# Altium integrated library Texas Instruments Interface USB.IntLib: 91 symbols (part 7 of 12)
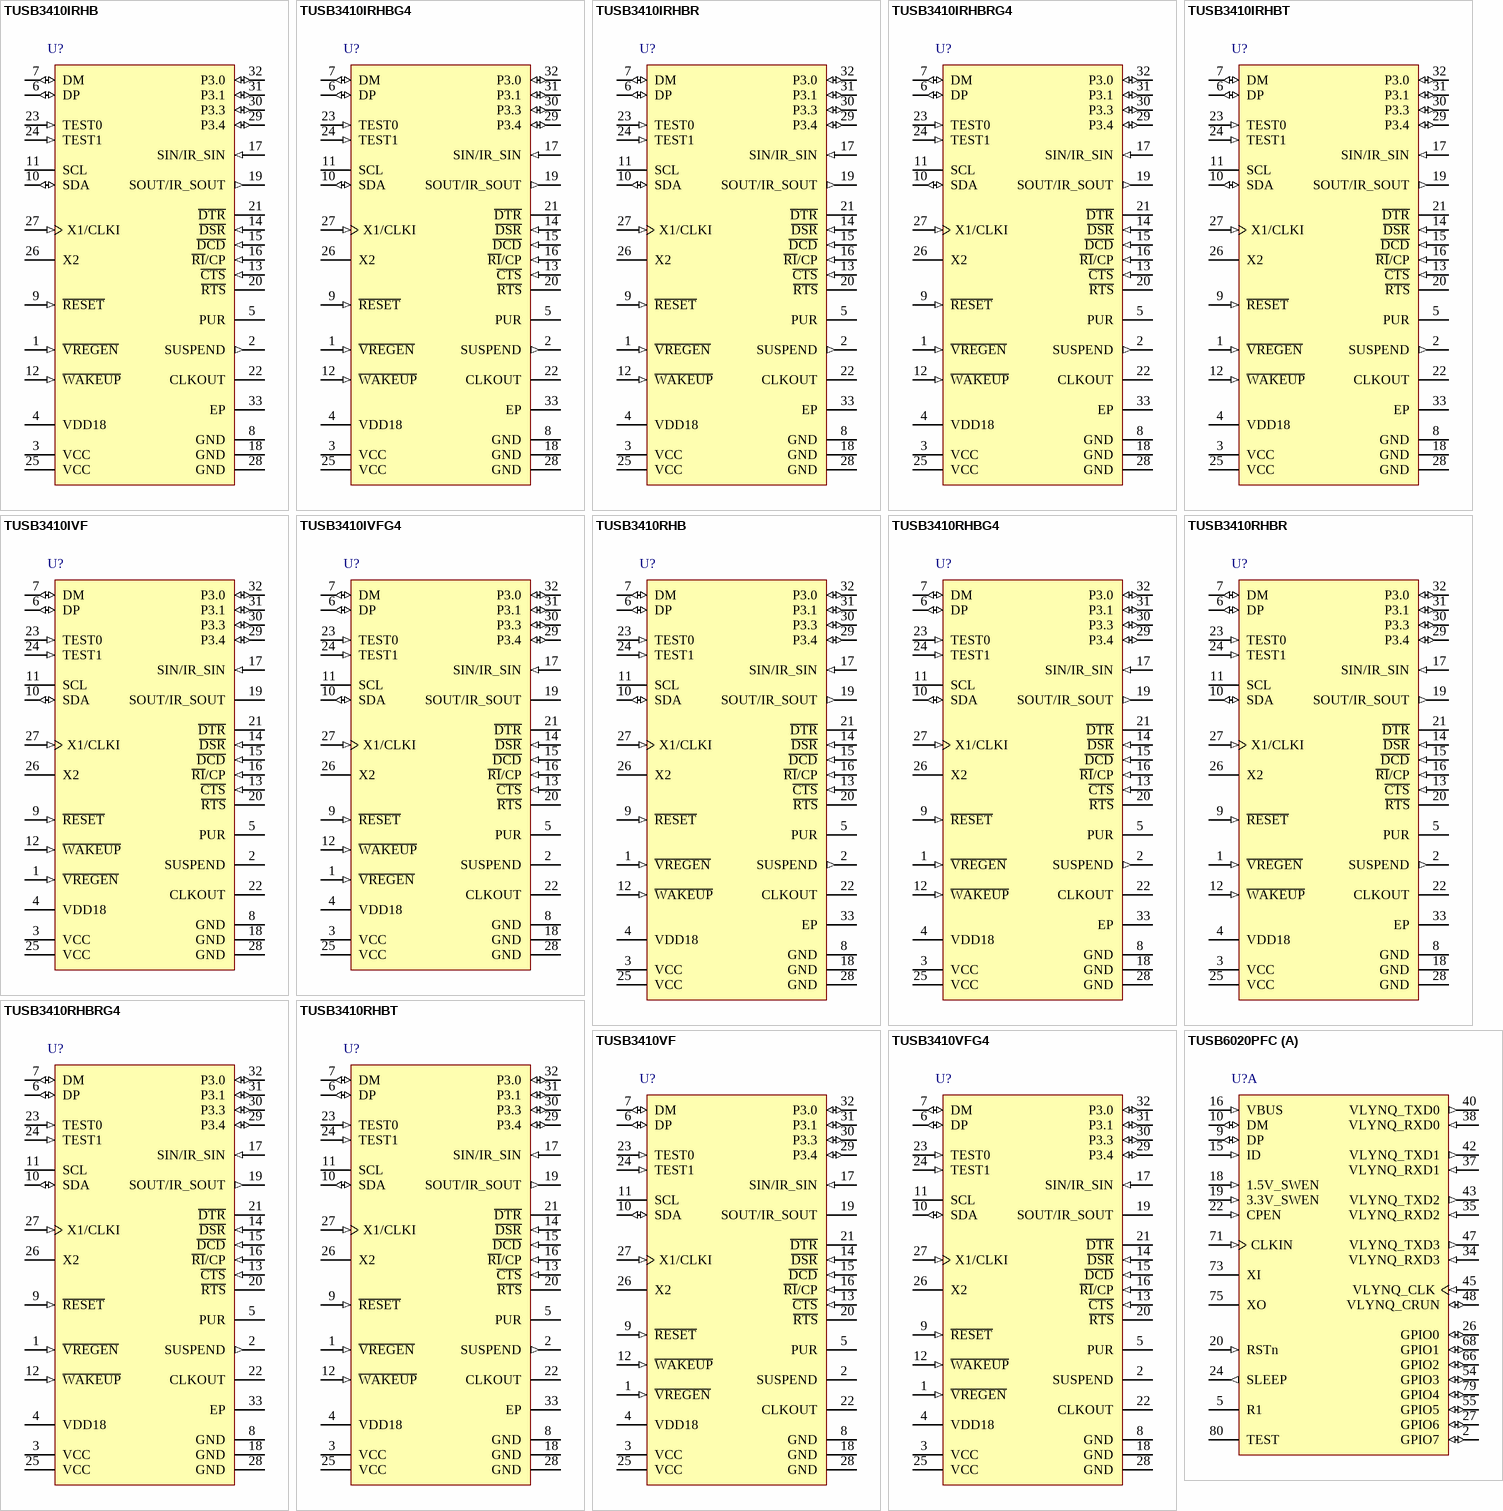
[diagram p14: symbols TUSB3410IRHB to TUSB6020PFC]

## TUSB3410IRHBG4
designator U?
RS232 / IrDA Serial-to-USB Converter, 2 MIPs, 16 KBytes, 8052, 3.3V, -40 to 85 degC, 32-Pin QFN (RHB), Green (RoHS & no Sb/Br); PartNumber: TUSB3410IRHBG4; Manufacturer: Texas Instruments; SubFamily: USB Peripheral; MCU Speed(Max)(MIPs): 2; Number of Endpoints IN: 3; Supply Voltage(s)(V): 3.3; Application Interface: Enhanced, UART; GPIO Pins(#): 4; USB Speed: Full; Integrated MCU Architecture: 8052; Bulk Transfer: True; MCU Code Space(KBytes): 16; DatasheetVersion: SLLS519H; PackageVersion: revD, Jun-2011; PackageReference: RHB32-3450X3450TP; PackageDescription: 32-Pin Plastic Quad Flat No-Lead, 5 x 5 mm Body, 0.5 mm Pitch, 3.45 x 3.45 mm Exposed Pad; Mounting Technology: Surface Mount; Eco-Plan: Green (RoHS & no Sb/Br); Number of Endpoints OUT: 3; Control Transfer: True; DMA: True; Interrupt Transfer: True; Remote Wakeup: True; Code_JEDEC: MO-220; ComponentLink1Description: Datasheet; ComponentLink1URL: http://www.ti.com/general/docs/lit/getliterature.tsp?genericPartNumber=TUSB3410&fileType=pdf; ComponentLink2Description: Package Specification; ComponentLink2URL: http://www.ti.com/litv/pdf/mpqf130c
footprint RHB32-3450X3450TP (QFN, 32-Leads, Body 5x5mm, Pitch 0.5mm, Thermal Pad 3.45x3.45mm, TI Recommended)
pins: 1 ~{VREGEN} (in) "This active-low terminal is used to enable the 3.3-V to 1.8-V voltage regulator.", 2 SUSPEND (out) "Suspend indicator terminal (see Note 3). When this terminal is asserted high, the device is in suspend mode.", 3 VCC (power) "3.3V", 4 VDD18 (power) "1.8-V supply. An internal voltage regulator generates this supply voltage when terminal V\R\E\G\E\N\ is low. When V\R\E\G\E\N\ is high, 1.8 V must be supplied externally.", 5 PUR (hiz) "Pull-up resistor connection (see Note 2)", 6 DP (io) "Upstream USB port differential data plus", 7 DM (io) "Upstream USB port differential data minus", 8 GND (power) "Digital ground", 9 ~{RESET} (in) "Device master reset input (see Note 4)", 10 SDA (io) "Master I2C controller: data signal (see Notes 1 and 5)", 11 SCL (hiz) "Master I2C controller: clock signal (see Note 1)", 12 ~{WAKEUP} (in) "Remote wake-up request terminal. When low, wakes up system (see Note 5)", 13 ~{CTS} (in) "UART: Clear to send (see Note 4)", 14 ~{DSR} (in) "UART: Data set ready (see Note 4)", 15 ~{DCD} (in) "UART: Data carrier detect (see Note 4)", 16 ~{RI}/CP (in) "UART: Ring indicator (see Note 4)", 17 SIN/IR_SIN (in) "UART: Serial input data / IR Serial data input (see Note 6)", 18 GND (power) "Digital ground", 19 SOUT/IR_SOUT (out) "UART: Serial output data / IR Serial data output (see Note 7)", 20 ~{RTS} (hiz) "UART: Request to send (see Note 1)", 21 ~{DTR} (hiz) "UART: Data terminal ready (see Note 1)", 22 CLKOUT (hiz) "Clock output (controlled by bits 2 (CLKOUTEN) and 3(CLKSLCT) in the MODECNFG register (see Section 5.5 and Note 1)", 23 TEST0 (in) "Test input (for factory test only) (see Note 5). This terminal must be tied to VCC through a 10-k ohm resistor.", 24 TEST1 (in) "Test input (for factory test only) (see Note 5). This terminal must be tied to VCC through a 10-k ohm resistor.", 25 VCC (power) "3.3V", 26 X2 "12-MHz crystal output", 27 X1/CLKI (in) "12-MHz crystal input or clock input", 28 GND (power) "Digital ground", 29 P3.4 (io) "General-purpose I/O 4 (port 3, terminal 4) (see Notes 3, 5, and 8)", 30 P3.3 (io) "General-purpose I/O 3 (port 3, terminal 3) (see Notes 3, 5, and 8)", 31 P3.1 (io) "General-purpose I/O 1 (port 3, terminal 1) (see Notes 3, 5, and 8)", 32 P3.0 (io) "General-purpose I/O 0 (port 3, terminal 0) (see Notes 3, 5, and 8)", 33 EP "Exposed Thermal Pad"

## TUSB3410IRHBR
designator U?
2 MIPs, RS232 / IrDA Serial-to-USB Converter, 16 KBytes, 8052, 3.3V, -40 to 85 degC, 32-Pin QFN (RHB), Green (RoHS & no Sb/Br); PartNumber: TUSB3410IRHBR; Manufacturer: Texas Instruments; SubFamily: USB Peripheral; MCU Speed(Max)(MIPs): 2; Number of Endpoints IN: 3; Supply Voltage(s)(V): 3.3; Application Interface: Enhanced, UART; GPIO Pins(#): 4; USB Speed: Full; Integrated MCU Architecture: 8052; Bulk Transfer: True; MCU Code Space(KBytes): 16; DatasheetVersion: SLLS519H; PackageVersion: revD, Jun-2011; PackageReference: RHB32-3450X3450TP; PackageDescription: 32-Pin Plastic Quad Flat No-Lead, 5 x 5 mm Body, 0.5 mm Pitch, 3.45 x 3.45 mm Exposed Pad; Mounting Technology: Surface Mount; Eco-Plan: Green (RoHS & no Sb/Br); Number of Endpoints OUT: 3; Control Transfer: True; DMA: True; Interrupt Transfer: True; Remote Wakeup: True; Code_JEDEC: MO-220; ComponentLink1Description: Datasheet; ComponentLink1URL: http://www.ti.com/general/docs/lit/getliterature.tsp?genericPartNumber=TUSB3410&fileType=pdf; ComponentLink2Description: Package Specification; ComponentLink2URL: http://www.ti.com/litv/pdf/mpqf130c
footprint RHB32-3450X3450TP (QFN, 32-Leads, Body 5x5mm, Pitch 0.5mm, Thermal Pad 3.45x3.45mm, TI Recommended)
pins: 1 ~{VREGEN} (in) "This active-low terminal is used to enable the 3.3-V to 1.8-V voltage regulator.", 2 SUSPEND (out) "Suspend indicator terminal (see Note 3). When this terminal is asserted high, the device is in suspend mode.", 3 VCC (power) "3.3V", 4 VDD18 (power) "1.8-V supply. An internal voltage regulator generates this supply voltage when terminal V\R\E\G\E\N\ is low. When V\R\E\G\E\N\ is high, 1.8 V must be supplied externally.", 5 PUR (hiz) "Pull-up resistor connection (see Note 2)", 6 DP (io) "Upstream USB port differential data plus", 7 DM (io) "Upstream USB port differential data minus", 8 GND (power) "Digital ground", 9 ~{RESET} (in) "Device master reset input (see Note 4)", 10 SDA (io) "Master I2C controller: data signal (see Notes 1 and 5)", 11 SCL (hiz) "Master I2C controller: clock signal (see Note 1)", 12 ~{WAKEUP} (in) "Remote wake-up request terminal. When low, wakes up system (see Note 5)", 13 ~{CTS} (in) "UART: Clear to send (see Note 4)", 14 ~{DSR} (in) "UART: Data set ready (see Note 4)", 15 ~{DCD} (in) "UART: Data carrier detect (see Note 4)", 16 ~{RI}/CP (in) "UART: Ring indicator (see Note 4)", 17 SIN/IR_SIN (in) "UART: Serial input data / IR Serial data input (see Note 6)", 18 GND (power) "Digital ground", 19 SOUT/IR_SOUT (out) "UART: Serial output data / IR Serial data output (see Note 7)", 20 ~{RTS} (hiz) "UART: Request to send (see Note 1)", 21 ~{DTR} (hiz) "UART: Data terminal ready (see Note 1)", 22 CLKOUT (hiz) "Clock output (controlled by bits 2 (CLKOUTEN) and 3(CLKSLCT) in the MODECNFG register (see Section 5.5 and Note 1)", 23 TEST0 (in) "Test input (for factory test only) (see Note 5). This terminal must be tied to VCC through a 10-k ohm resistor.", 24 TEST1 (in) "Test input (for factory test only) (see Note 5). This terminal must be tied to VCC through a 10-k ohm resistor.", 25 VCC (power) "3.3V", 26 X2 "12-MHz crystal output", 27 X1/CLKI (in) "12-MHz crystal input or clock input", 28 GND (power) "Digital ground", 29 P3.4 (io) "General-purpose I/O 4 (port 3, terminal 4) (see Notes 3, 5, and 8)", 30 P3.3 (io) "General-purpose I/O 3 (port 3, terminal 3) (see Notes 3, 5, and 8)", 31 P3.1 (io) "General-purpose I/O 1 (port 3, terminal 1) (see Notes 3, 5, and 8)", 32 P3.0 (io) "General-purpose I/O 0 (port 3, terminal 0) (see Notes 3, 5, and 8)", 33 EP "Exposed Thermal Pad"

## TUSB3410IRHBRG4
designator U?
2 MIPs, RS232 / IrDA Serial-to-USB Converter, 16 KBytes, 8052, 3.3V, -40 to 85 degC, 32-Pin QFN (RHB), Green (RoHS & no Sb/Br); PartNumber: TUSB3410IRHBRG4; Manufacturer: Texas Instruments; SubFamily: USB Peripheral; MCU Speed(Max)(MIPs): 2; Number of Endpoints IN: 3; Supply Voltage(s)(V): 3.3; Application Interface: Enhanced, UART; GPIO Pins(#): 4; USB Speed: Full; Integrated MCU Architecture: 8052; Bulk Transfer: True; MCU Code Space(KBytes): 16; DatasheetVersion: SLLS519H; PackageVersion: revD, Jun-2011; PackageReference: RHB32-3450X3450TP; PackageDescription: 32-Pin Plastic Quad Flat No-Lead, 5 x 5 mm Body, 0.5 mm Pitch, 3.45 x 3.45 mm Exposed Pad; Mounting Technology: Surface Mount; Eco-Plan: Green (RoHS & no Sb/Br); Number of Endpoints OUT: 3; Control Transfer: True; DMA: True; Interrupt Transfer: True; Remote Wakeup: True; Code_JEDEC: MO-220; ComponentLink1Description: Datasheet; ComponentLink1URL: http://www.ti.com/general/docs/lit/getliterature.tsp?genericPartNumber=TUSB3410&fileType=pdf; ComponentLink2Description: Package Specification; ComponentLink2URL: http://www.ti.com/litv/pdf/mpqf130c
footprint RHB32-3450X3450TP (QFN, 32-Leads, Body 5x5mm, Pitch 0.5mm, Thermal Pad 3.45x3.45mm, TI Recommended)
pins: 1 ~{VREGEN} (in) "This active-low terminal is used to enable the 3.3-V to 1.8-V voltage regulator.", 2 SUSPEND (out) "Suspend indicator terminal (see Note 3). When this terminal is asserted high, the device is in suspend mode.", 3 VCC (power) "3.3V", 4 VDD18 (power) "1.8-V supply. An internal voltage regulator generates this supply voltage when terminal V\R\E\G\E\N\ is low. When V\R\E\G\E\N\ is high, 1.8 V must be supplied externally.", 5 PUR (hiz) "Pull-up resistor connection (see Note 2)", 6 DP (io) "Upstream USB port differential data plus", 7 DM (io) "Upstream USB port differential data minus", 8 GND (power) "Digital ground", 9 ~{RESET} (in) "Device master reset input (see Note 4)", 10 SDA (io) "Master I2C controller: data signal (see Notes 1 and 5)", 11 SCL (hiz) "Master I2C controller: clock signal (see Note 1)", 12 ~{WAKEUP} (in) "Remote wake-up request terminal. When low, wakes up system (see Note 5)", 13 ~{CTS} (in) "UART: Clear to send (see Note 4)", 14 ~{DSR} (in) "UART: Data set ready (see Note 4)", 15 ~{DCD} (in) "UART: Data carrier detect (see Note 4)", 16 ~{RI}/CP (in) "UART: Ring indicator (see Note 4)", 17 SIN/IR_SIN (in) "UART: Serial input data / IR Serial data input (see Note 6)", 18 GND (power) "Digital ground", 19 SOUT/IR_SOUT (out) "UART: Serial output data / IR Serial data output (see Note 7)", 20 ~{RTS} (hiz) "UART: Request to send (see Note 1)", 21 ~{DTR} (hiz) "UART: Data terminal ready (see Note 1)", 22 CLKOUT (hiz) "Clock output (controlled by bits 2 (CLKOUTEN) and 3(CLKSLCT) in the MODECNFG register (see Section 5.5 and Note 1)", 23 TEST0 (in) "Test input (for factory test only) (see Note 5). This terminal must be tied to VCC through a 10-k ohm resistor.", 24 TEST1 (in) "Test input (for factory test only) (see Note 5). This terminal must be tied to VCC through a 10-k ohm resistor.", 25 VCC (power) "3.3V", 26 X2 "12-MHz crystal output", 27 X1/CLKI (in) "12-MHz crystal input or clock input", 28 GND (power) "Digital ground", 29 P3.4 (io) "General-purpose I/O 4 (port 3, terminal 4) (see Notes 3, 5, and 8)", 30 P3.3 (io) "General-purpose I/O 3 (port 3, terminal 3) (see Notes 3, 5, and 8)", 31 P3.1 (io) "General-purpose I/O 1 (port 3, terminal 1) (see Notes 3, 5, and 8)", 32 P3.0 (io) "General-purpose I/O 0 (port 3, terminal 0) (see Notes 3, 5, and 8)", 33 EP "Exposed Thermal Pad"

## TUSB3410IRHBT
designator U?
RS232 / IrDA Serial-to-USB Converter, 2 MIPs, 16 KBytes, 8052, 3.3V, -40 to 85 degC, 33-Pin QFN (RHB), Green (RoHS & no Sb/Br); PartNumber: TUSB3410IRHBT; Manufacturer: Texas Instruments; SubFamily: USB Peripheral; MCU Speed(Max)(MIPs): 2; Number of Endpoints IN: 3; Supply Voltage(s)(V): 3.3; Application Interface: Enhanced, UART; GPIO Pins(#): 4; USB Speed: Full; Integrated MCU Architecture: 8052; Bulk Transfer: True; MCU Code Space(KBytes): 16; DatasheetVersion: SLLS519H; PackageVersion: revD, Jun-2011; PackageReference: RHB32-3450X3450TP; PackageDescription: 32-Pin Plastic Quad Flat No-Lead, 5 x 5 mm Body, 0.5 mm Pitch, 3.45 x 3.45 mm Exposed Pad; Mounting Technology: Surface Mount; Eco-Plan: Green (RoHS & no Sb/Br); Number of Endpoints OUT: 3; Control Transfer: True; DMA: True; Interrupt Transfer: True; Remote Wakeup: True; Code_JEDEC: MO-220; ComponentLink1Description: Datasheet; ComponentLink1URL: http://www.ti.com/general/docs/lit/getliterature.tsp?genericPartNumber=TUSB3410&fileType=pdf; ComponentLink2Description: Package Specification; ComponentLink2URL: http://www.ti.com/litv/pdf/mpqf130c
footprint RHB32-3450X3450TP (QFN, 32-Leads, Body 5x5mm, Pitch 0.5mm, Thermal Pad 3.45x3.45mm, TI Recommended)
pins: 1 ~{VREGEN} (in) "This active-low terminal is used to enable the 3.3-V to 1.8-V voltage regulator.", 2 SUSPEND (out) "Suspend indicator terminal (see Note 3). When this terminal is asserted high, the device is in suspend mode.", 3 VCC (power) "3.3V", 4 VDD18 (power) "1.8-V supply. An internal voltage regulator generates this supply voltage when terminal V\R\E\G\E\N\ is low. When V\R\E\G\E\N\ is high, 1.8 V must be supplied externally.", 5 PUR (hiz) "Pull-up resistor connection (see Note 2)", 6 DP (io) "Upstream USB port differential data plus", 7 DM (io) "Upstream USB port differential data minus", 8 GND (power) "Digital ground", 9 ~{RESET} (in) "Device master reset input (see Note 4)", 10 SDA (io) "Master I2C controller: data signal (see Notes 1 and 5)", 11 SCL (hiz) "Master I2C controller: clock signal (see Note 1)", 12 ~{WAKEUP} (in) "Remote wake-up request terminal. When low, wakes up system (see Note 5)", 13 ~{CTS} (in) "UART: Clear to send (see Note 4)", 14 ~{DSR} (in) "UART: Data set ready (see Note 4)", 15 ~{DCD} (in) "UART: Data carrier detect (see Note 4)", 16 ~{RI}/CP (in) "UART: Ring indicator (see Note 4)", 17 SIN/IR_SIN (in) "UART: Serial input data / IR Serial data input (see Note 6)", 18 GND (power) "Digital ground", 19 SOUT/IR_SOUT (out) "UART: Serial output data / IR Serial data output (see Note 7)", 20 ~{RTS} (hiz) "UART: Request to send (see Note 1)", 21 ~{DTR} (hiz) "UART: Data terminal ready (see Note 1)", 22 CLKOUT (hiz) "Clock output (controlled by bits 2 (CLKOUTEN) and 3(CLKSLCT) in the MODECNFG register (see Section 5.5 and Note 1)", 23 TEST0 (in) "Test input (for factory test only) (see Note 5). This terminal must be tied to VCC through a 10-k ohm resistor.", 24 TEST1 (in) "Test input (for factory test only) (see Note 5). This terminal must be tied to VCC through a 10-k ohm resistor.", 25 VCC (power) "3.3V", 26 X2 "12-MHz crystal output", 27 X1/CLKI (in) "12-MHz crystal input or clock input", 28 GND (power) "Digital ground", 29 P3.4 (io) "General-purpose I/O 4 (port 3, terminal 4) (see Notes 3, 5, and 8)", 30 P3.3 (io) "General-purpose I/O 3 (port 3, terminal 3) (see Notes 3, 5, and 8)", 31 P3.1 (io) "General-purpose I/O 1 (port 3, terminal 1) (see Notes 3, 5, and 8)", 32 P3.0 (io) "General-purpose I/O 0 (port 3, terminal 0) (see Notes 3, 5, and 8)", 33 EP "Exposed Thermal Pad"

## TUSB3410IVF
designator U?
RS232 / IrDA Serial-to-USB Converter, 2 MIPs, 16 KBytes, 8052, 3.3V, -40 to 85 degC, 32-Pin LQFP (VF), Green (RoHS & no Sb/Br); PartNumber: TUSB3410IVF; Manufacturer: Texas Instruments; SubFamily: USB Peripheral; MCU Speed(Max)(MIPs): 2; Number of Endpoints IN: 3; Supply Voltage(s)(V): 3.3; Application Interface: Enhanced, UART; GPIO Pins(#): 4; USB Speed: Full; Integrated MCU Architecture: 8052; Bulk Transfer: True; MCU Code Space(KBytes): 16; DatasheetVersion: SLLS519H; PackageVersion: revD, Apr-2000; PackageReference: VF32; PackageDescription: 32-Pin Plastic Quad Flatpack, 7 x 7 mm Body, 0.8 mm Pitch; Mounting Technology: Surface Mount; Eco-Plan: Green (RoHS & no Sb/Br); Number of Endpoints OUT: 3; Control Transfer: True; DMA: True; Interrupt Transfer: True; Remote Wakeup: True; ComponentLink1Description: Datasheet; ComponentLink1URL: http://www.ti.com/general/docs/lit/getliterature.tsp?genericPartNumber=TUSB3410&fileType=pdf; ComponentLink2Description: Package Specification; ComponentLink2URL: http://www.ti.com/litv/pdf/mtqf002b
footprint VF32_N (Thin QFP, 32-Leads, Body 7x7mm, Pitch 0.8mm, IPC Medium Density)
footprint VF32_L (Thin QFP, 32-Leads, Body 7x7mm, Pitch 0.8mm, IPC High Density)
footprint VF32_M (Thin QFP, 32-Leads, Body 7x7mm, Pitch 0.8mm, IPC Low Density)
pins: 1 ~{VREGEN} (in) "This active-low terminal is used to enable the 3.3-V to 1.8-V voltage regulator.", 2 SUSPEND (hiz) "Suspend indicator terminal (see Note 3). When this terminal is asserted high, the device is in suspend mode.", 3 VCC (power) "3.3 V", 4 VDD18 (power) "1.8-V supply. An internal voltage regulator generates this supply voltage when terminal V\R\E\G\E\N\ islow. When V\R\E\G\E\N\ is high, 1.8 V must be supplied externally.", 5 PUR (hiz) "Pull-up resistor connection (see Note 2)", 6 DP (io) "Upstream USB port differential data plus", 7 DM (io) "Upstream USB port differential data minus", 8 GND (power) "Digital ground", 9 ~{RESET} (in) "Device master reset input (see Note 4)", 10 SDA (io) "Master I2C controller: data signal (see Notes 1 and 5)", 11 SCL (hiz) "Master I2C controller: clock signal (see Note 1)", 12 ~{WAKEUP} (in) "Remote wake-up request terminal. When low, wakes up system (see Note 5)", 13 ~{CTS} (in) "UART: Clear to send (see Note 4)", 14 ~{DSR} (in) "UART: Data set ready (see Note 4)", 15 ~{DCD} (in) "UART: Data carrier detect (see Note 4)", 16 ~{RI}/CP (in) "UART: Ring indicator (see Note 4)", 17 SIN/IR_SIN (in) "UART: Serial input data / IR Serial data input (see Note 6)", 18 GND (power) "Digital ground", 19 SOUT/IR_SOUT (hiz) "UART: Serial output data / IR Serial data output (see Note 7)", 20 ~{RTS} (hiz) "UART: Request to send (see Note 1)", 21 ~{DTR} (hiz) "UART: Data terminal ready (see Note 1)", 22 CLKOUT (hiz) "Clock output (controlled by bits 2 (CLKOUTEN) and 3(CLKSLCT) in the MODECNFG register (see Section 5.5 and Note 1)", 23 TEST0 (in) "Test input (for factory test only) (see Note 5). This terminal must be tied to VCC through a 10-kO resistor.", 24 TEST1 (in) "Test input (for factory test only) (see Note 5). This terminal must be tied to VCC through a 10-kO resistor.", 25 VCC (power) "3.3 V", 26 X2 "12-MHz crystal output", 27 X1/CLKI (in) "12-MHz crystal input or clock input", 28 GND (power) "Digital ground", 29 P3.4 (io) "General-purpose I/O 4 (port 3, terminal 4) (see Notes 3, 5, and 8)", 30 P3.3 (io) "General-purpose I/O 3 (port 3, terminal 3) (see Notes 3, 5, and 8)", 31 P3.1 (io) "General-purpose I/O 1 (port 3, terminal 1) (see Notes 3, 5, and 8)", 32 P3.0 (io) "General-purpose I/O 0 (port 3, terminal 0) (see Notes 3, 5, and 8)"

## TUSB3410IVFG4
designator U?
RS232 / IrDA Serial-to-USB Converter, 2 MIPs, 16 KBytes, 8052, 3.3V, -40 to 85 degC, 32-Pin LQFP (VF), Green (RoHS & no Sb/Br); PartNumber: TUSB3410IVFG4; Manufacturer: Texas Instruments; SubFamily: USB Peripheral; MCU Speed(Max)(MIPs): 2; Number of Endpoints IN: 3; Supply Voltage(s)(V): 3.3; Application Interface: Enhanced, UART; GPIO Pins(#): 4; USB Speed: Full; Integrated MCU Architecture: 8052; Bulk Transfer: True; MCU Code Space(KBytes): 16; DatasheetVersion: SLLS519H; PackageVersion: revD, Apr-2000; PackageReference: VF32; PackageDescription: 32-Pin Plastic Quad Flatpack, 7 x 7 mm Body, 0.8 mm Pitch; Mounting Technology: Surface Mount; Eco-Plan: Green (RoHS & no Sb/Br); Number of Endpoints OUT: 3; Control Transfer: True; DMA: True; Interrupt Transfer: True; Remote Wakeup: True; ComponentLink1Description: Datasheet; ComponentLink1URL: http://www.ti.com/general/docs/lit/getliterature.tsp?genericPartNumber=TUSB3410&fileType=pdf; ComponentLink2Description: Package Specification; ComponentLink2URL: http://www.ti.com/litv/pdf/mtqf002b
footprint VF32_N (Thin QFP, 32-Leads, Body 7x7mm, Pitch 0.8mm, IPC Medium Density)
footprint VF32_L (Thin QFP, 32-Leads, Body 7x7mm, Pitch 0.8mm, IPC High Density)
footprint VF32_M (Thin QFP, 32-Leads, Body 7x7mm, Pitch 0.8mm, IPC Low Density)
pins: 1 ~{VREGEN} (in) "This active-low terminal is used to enable the 3.3-V to 1.8-V voltage regulator.", 2 SUSPEND (hiz) "Suspend indicator terminal (see Note 3). When this terminal is asserted high, the device is in suspend mode.", 3 VCC (power) "3.3 V", 4 VDD18 (power) "1.8-V supply. An internal voltage regulator generates this supply voltage when terminal V\R\E\G\E\N\ islow. When V\R\E\G\E\N\ is high, 1.8 V must be supplied externally.", 5 PUR (hiz) "Pull-up resistor connection (see Note 2)", 6 DP (io) "Upstream USB port differential data plus", 7 DM (io) "Upstream USB port differential data minus", 8 GND (power) "Digital ground", 9 ~{RESET} (in) "Device master reset input (see Note 4)", 10 SDA (io) "Master I2C controller: data signal (see Notes 1 and 5)", 11 SCL (hiz) "Master I2C controller: clock signal (see Note 1)", 12 ~{WAKEUP} (in) "Remote wake-up request terminal. When low, wakes up system (see Note 5)", 13 ~{CTS} (in) "UART: Clear to send (see Note 4)", 14 ~{DSR} (in) "UART: Data set ready (see Note 4)", 15 ~{DCD} (in) "UART: Data carrier detect (see Note 4)", 16 ~{RI}/CP (in) "UART: Ring indicator (see Note 4)", 17 SIN/IR_SIN (in) "UART: Serial input data / IR Serial data input (see Note 6)", 18 GND (power) "Digital ground", 19 SOUT/IR_SOUT (hiz) "UART: Serial output data / IR Serial data output (see Note 7)", 20 ~{RTS} (hiz) "UART: Request to send (see Note 1)", 21 ~{DTR} (hiz) "UART: Data terminal ready (see Note 1)", 22 CLKOUT (hiz) "Clock output (controlled by bits 2 (CLKOUTEN) and 3(CLKSLCT) in the MODECNFG register (see Section 5.5 and Note 1)", 23 TEST0 (in) "Test input (for factory test only) (see Note 5). This terminal must be tied to VCC through a 10-kO resistor.", 24 TEST1 (in) "Test input (for factory test only) (see Note 5). This terminal must be tied to VCC through a 10-kO resistor.", 25 VCC (power) "3.3 V", 26 X2 "12-MHz crystal output", 27 X1/CLKI (in) "12-MHz crystal input or clock input", 28 GND (power) "Digital ground", 29 P3.4 (io) "General-purpose I/O 4 (port 3, terminal 4) (see Notes 3, 5, and 8)", 30 P3.3 (io) "General-purpose I/O 3 (port 3, terminal 3) (see Notes 3, 5, and 8)", 31 P3.1 (io) "General-purpose I/O 1 (port 3, terminal 1) (see Notes 3, 5, and 8)", 32 P3.0 (io) "General-purpose I/O 0 (port 3, terminal 0) (see Notes 3, 5, and 8)"

## TUSB3410RHB
designator U?
RS232 / IrDA Serial-to-USB Converter, 2 MIPs, 16 KBytes, 8052, 3.3V, 0 to 70 degC, 32-Pin QFN (RHB), Green (RoHS & no Sb/Br); PartNumber: TUSB3410RHB; Manufacturer: Texas Instruments; SubFamily: USB Peripheral; MCU Speed(Max)(MIPs): 2; Number of Endpoints IN: 3; Supply Voltage(s)(V): 3.3; Application Interface: Enhanced, UART; GPIO Pins(#): 4; USB Speed: Full; Integrated MCU Architecture: 8052; Bulk Transfer: True; MCU Code Space(KBytes): 16; DatasheetVersion: SLLS519H; PackageVersion: revD, Jun-2011; PackageReference: RHB32-3450X3450TP; PackageDescription: 32-Pin Plastic Quad Flat No-Lead, 5 x 5 mm Body, 0.5 mm Pitch, 3.45 x 3.45 mm Exposed Pad; Mounting Technology: Surface Mount; Eco-Plan: Green (RoHS & no Sb/Br); Number of Endpoints OUT: 3; Control Transfer: True; DMA: True; Interrupt Transfer: True; Remote Wakeup: True; Code_JEDEC: MO-220; ComponentLink1Description: Datasheet; ComponentLink1URL: http://www.ti.com/general/docs/lit/getliterature.tsp?genericPartNumber=TUSB3410&fileType=pdf; ComponentLink2Description: Package Specification; ComponentLink2URL: http://www.ti.com/litv/pdf/mpqf130c
footprint RHB32-3450X3450TP (QFN, 32-Leads, Body 5x5mm, Pitch 0.5mm, Thermal Pad 3.45x3.45mm, TI Recommended)
pins: 1 ~{VREGEN} (in) "This active-low terminal is used to enable the 3.3-V to 1.8-V voltage regulator.", 2 SUSPEND (out) "Suspend indicator terminal (see Note 3). When this terminal is asserted high, the device is in suspend mode.", 3 VCC (power) "3.3V", 4 VDD18 (power) "1.8-V supply. An internal voltage regulator generates this supply voltage when terminal V\R\E\G\E\N\ is low. When V\R\E\G\E\N\ is high, 1.8 V must be supplied externally.", 5 PUR (hiz) "Pull-up resistor connection (see Note 2)", 6 DP (io) "Upstream USB port differential data plus", 7 DM (io) "Upstream USB port differential data minus", 8 GND (power) "Digital ground", 9 ~{RESET} (in) "Device master reset input (see Note 4)", 10 SDA (io) "Master I2C controller: data signal (see Notes 1 and 5)", 11 SCL (hiz) "Master I2C controller: clock signal (see Note 1)", 12 ~{WAKEUP} (in) "Remote wake-up request terminal. When low, wakes up system (see Note 5)", 13 ~{CTS} (in) "UART: Clear to send (see Note 4)", 14 ~{DSR} (in) "UART: Data set ready (see Note 4)", 15 ~{DCD} (in) "UART: Data carrier detect (see Note 4)", 16 ~{RI}/CP (in) "UART: Ring indicator (see Note 4)", 17 SIN/IR_SIN (in) "UART: Serial input data / IR Serial data input (see Note 6)", 18 GND (power) "Digital ground", 19 SOUT/IR_SOUT (out) "UART: Serial output data / IR Serial data output (see Note 7)", 20 ~{RTS} (hiz) "UART: Request to send (see Note 1)", 21 ~{DTR} (hiz) "UART: Data terminal ready (see Note 1)", 22 CLKOUT (hiz) "Clock output (controlled by bits 2 (CLKOUTEN) and 3(CLKSLCT) in the MODECNFG register (see Section 5.5 and Note 1)", 23 TEST0 (in) "Test input (for factory test only) (see Note 5). This terminal must be tied to VCC through a 10-k ohm resistor.", 24 TEST1 (in) "Test input (for factory test only) (see Note 5). This terminal must be tied to VCC through a 10-k ohm resistor.", 25 VCC (power) "3.3V", 26 X2 "12-MHz crystal output", 27 X1/CLKI (in) "12-MHz crystal input or clock input", 28 GND (power) "Digital ground", 29 P3.4 (io) "General-purpose I/O 4 (port 3, terminal 4) (see Notes 3, 5, and 8)", 30 P3.3 (io) "General-purpose I/O 3 (port 3, terminal 3) (see Notes 3, 5, and 8)", 31 P3.1 (io) "General-purpose I/O 1 (port 3, terminal 1) (see Notes 3, 5, and 8)", 32 P3.0 (io) "General-purpose I/O 0 (port 3, terminal 0) (see Notes 3, 5, and 8)", 33 EP "Exposed Thermal Pad"

## TUSB3410RHBG4
designator U?
RS232 / IrDA Serial-to-USB Converter, 2 MIPs, 16 KBytes, 8052, 3.3V, 0 to 70 degC, 32-Pin QFN (RHB), Green (RoHS & no Sb/Br); PartNumber: TUSB3410RHBG4; Manufacturer: Texas Instruments; SubFamily: USB Peripheral; MCU Speed(Max)(MIPs): 2; Number of Endpoints IN: 3; Supply Voltage(s)(V): 3.3; Application Interface: Enhanced, UART; GPIO Pins(#): 4; USB Speed: Full; Integrated MCU Architecture: 8052; Bulk Transfer: True; MCU Code Space(KBytes): 16; DatasheetVersion: SLLS519H; PackageVersion: revD, Jun-2011; PackageReference: RHB32-3450X3450TP; PackageDescription: 32-Pin Plastic Quad Flat No-Lead, 5 x 5 mm Body, 0.5 mm Pitch, 3.45 x 3.45 mm Exposed Pad; Mounting Technology: Surface Mount; Eco-Plan: Green (RoHS & no Sb/Br); Number of Endpoints OUT: 3; Control Transfer: True; DMA: True; Interrupt Transfer: True; Remote Wakeup: True; Code_JEDEC: MO-220; ComponentLink1Description: Datasheet; ComponentLink1URL: http://www.ti.com/general/docs/lit/getliterature.tsp?genericPartNumber=TUSB3410&fileType=pdf; ComponentLink2Description: Package Specification; ComponentLink2URL: http://www.ti.com/litv/pdf/mpqf130c
footprint RHB32-3450X3450TP (QFN, 32-Leads, Body 5x5mm, Pitch 0.5mm, Thermal Pad 3.45x3.45mm, TI Recommended)
pins: 1 ~{VREGEN} (in) "This active-low terminal is used to enable the 3.3-V to 1.8-V voltage regulator.", 2 SUSPEND (out) "Suspend indicator terminal (see Note 3). When this terminal is asserted high, the device is in suspend mode.", 3 VCC (power) "3.3V", 4 VDD18 (power) "1.8-V supply. An internal voltage regulator generates this supply voltage when terminal V\R\E\G\E\N\ is low. When V\R\E\G\E\N\ is high, 1.8 V must be supplied externally.", 5 PUR (hiz) "Pull-up resistor connection (see Note 2)", 6 DP (io) "Upstream USB port differential data plus", 7 DM (io) "Upstream USB port differential data minus", 8 GND (power) "Digital ground", 9 ~{RESET} (in) "Device master reset input (see Note 4)", 10 SDA (io) "Master I2C controller: data signal (see Notes 1 and 5)", 11 SCL (hiz) "Master I2C controller: clock signal (see Note 1)", 12 ~{WAKEUP} (in) "Remote wake-up request terminal. When low, wakes up system (see Note 5)", 13 ~{CTS} (in) "UART: Clear to send (see Note 4)", 14 ~{DSR} (in) "UART: Data set ready (see Note 4)", 15 ~{DCD} (in) "UART: Data carrier detect (see Note 4)", 16 ~{RI}/CP (in) "UART: Ring indicator (see Note 4)", 17 SIN/IR_SIN (in) "UART: Serial input data / IR Serial data input (see Note 6)", 18 GND (power) "Digital ground", 19 SOUT/IR_SOUT (out) "UART: Serial output data / IR Serial data output (see Note 7)", 20 ~{RTS} (hiz) "UART: Request to send (see Note 1)", 21 ~{DTR} (hiz) "UART: Data terminal ready (see Note 1)", 22 CLKOUT (hiz) "Clock output (controlled by bits 2 (CLKOUTEN) and 3(CLKSLCT) in the MODECNFG register (see Section 5.5 and Note 1)", 23 TEST0 (in) "Test input (for factory test only) (see Note 5). This terminal must be tied to VCC through a 10-k ohm resistor.", 24 TEST1 (in) "Test input (for factory test only) (see Note 5). This terminal must be tied to VCC through a 10-k ohm resistor.", 25 VCC (power) "3.3V", 26 X2 "12-MHz crystal output", 27 X1/CLKI (in) "12-MHz crystal input or clock input", 28 GND (power) "Digital ground", 29 P3.4 (io) "General-purpose I/O 4 (port 3, terminal 4) (see Notes 3, 5, and 8)", 30 P3.3 (io) "General-purpose I/O 3 (port 3, terminal 3) (see Notes 3, 5, and 8)", 31 P3.1 (io) "General-purpose I/O 1 (port 3, terminal 1) (see Notes 3, 5, and 8)", 32 P3.0 (io) "General-purpose I/O 0 (port 3, terminal 0) (see Notes 3, 5, and 8)", 33 EP "Exposed Thermal Pad"

## TUSB3410RHBR
designator U?
2 MIPs, RS232 / IrDA Serial-to-USB Converter, 16 KBytes, 8052, 3.3V, 0 to 70 degC, 32-Pin QFN (RHB), Green (RoHS & no Sb/Br); PartNumber: TUSB3410RHBR; Manufacturer: Texas Instruments; SubFamily: USB Peripheral; MCU Speed(Max)(MIPs): 2; Number of Endpoints IN: 3; Supply Voltage(s)(V): 3.3; Application Interface: Enhanced, UART; GPIO Pins(#): 4; USB Speed: Full; Integrated MCU Architecture: 8052; Bulk Transfer: True; MCU Code Space(KBytes): 16; DatasheetVersion: SLLS519H; PackageVersion: revD, Jun-2011; PackageReference: RHB32-3450X3450TP; PackageDescription: 32-Pin Plastic Quad Flat No-Lead, 5 x 5 mm Body, 0.5 mm Pitch, 3.45 x 3.45 mm Exposed Pad; Mounting Technology: Surface Mount; Eco-Plan: Green (RoHS & no Sb/Br); Number of Endpoints OUT: 3; Control Transfer: True; DMA: True; Interrupt Transfer: True; Remote Wakeup: True; Code_JEDEC: MO-220; ComponentLink1Description: Datasheet; ComponentLink1URL: http://www.ti.com/general/docs/lit/getliterature.tsp?genericPartNumber=TUSB3410&fileType=pdf; ComponentLink2Description: Package Specification; ComponentLink2URL: http://www.ti.com/litv/pdf/mpqf130c
footprint RHB32-3450X3450TP (QFN, 32-Leads, Body 5x5mm, Pitch 0.5mm, Thermal Pad 3.45x3.45mm, TI Recommended)
pins: 1 ~{VREGEN} (in) "This active-low terminal is used to enable the 3.3-V to 1.8-V voltage regulator.", 2 SUSPEND (out) "Suspend indicator terminal (see Note 3). When this terminal is asserted high, the device is in suspend mode.", 3 VCC (power) "3.3V", 4 VDD18 (power) "1.8-V supply. An internal voltage regulator generates this supply voltage when terminal V\R\E\G\E\N\ is low. When V\R\E\G\E\N\ is high, 1.8 V must be supplied externally.", 5 PUR (hiz) "Pull-up resistor connection (see Note 2)", 6 DP (io) "Upstream USB port differential data plus", 7 DM (io) "Upstream USB port differential data minus", 8 GND (power) "Digital ground", 9 ~{RESET} (in) "Device master reset input (see Note 4)", 10 SDA (io) "Master I2C controller: data signal (see Notes 1 and 5)", 11 SCL (hiz) "Master I2C controller: clock signal (see Note 1)", 12 ~{WAKEUP} (in) "Remote wake-up request terminal. When low, wakes up system (see Note 5)", 13 ~{CTS} (in) "UART: Clear to send (see Note 4)", 14 ~{DSR} (in) "UART: Data set ready (see Note 4)", 15 ~{DCD} (in) "UART: Data carrier detect (see Note 4)", 16 ~{RI}/CP (in) "UART: Ring indicator (see Note 4)", 17 SIN/IR_SIN (in) "UART: Serial input data / IR Serial data input (see Note 6)", 18 GND (power) "Digital ground", 19 SOUT/IR_SOUT (out) "UART: Serial output data / IR Serial data output (see Note 7)", 20 ~{RTS} (hiz) "UART: Request to send (see Note 1)", 21 ~{DTR} (hiz) "UART: Data terminal ready (see Note 1)", 22 CLKOUT (hiz) "Clock output (controlled by bits 2 (CLKOUTEN) and 3(CLKSLCT) in the MODECNFG register (see Section 5.5 and Note 1)", 23 TEST0 (in) "Test input (for factory test only) (see Note 5). This terminal must be tied to VCC through a 10-k ohm resistor.", 24 TEST1 (in) "Test input (for factory test only) (see Note 5). This terminal must be tied to VCC through a 10-k ohm resistor.", 25 VCC (power) "3.3V", 26 X2 "12-MHz crystal output", 27 X1/CLKI (in) "12-MHz crystal input or clock input", 28 GND (power) "Digital ground", 29 P3.4 (io) "General-purpose I/O 4 (port 3, terminal 4) (see Notes 3, 5, and 8)", 30 P3.3 (io) "General-purpose I/O 3 (port 3, terminal 3) (see Notes 3, 5, and 8)", 31 P3.1 (io) "General-purpose I/O 1 (port 3, terminal 1) (see Notes 3, 5, and 8)", 32 P3.0 (io) "General-purpose I/O 0 (port 3, terminal 0) (see Notes 3, 5, and 8)", 33 EP "Exposed Thermal Pad"

## TUSB3410RHBRG4
designator U?
2 MIPs, RS232 / IrDA Serial-to-USB Converter, 16 KBytes, 8052, 3.3V, 0 to 70 degC, 32-Pin QFN (RHB), Green (RoHS & no Sb/Br); PartNumber: TUSB3410RHBRG4; Manufacturer: Texas Instruments; SubFamily: USB Peripheral; MCU Speed(Max)(MIPs): 2; Number of Endpoints IN: 3; Supply Voltage(s)(V): 3.3; Application Interface: Enhanced, UART; GPIO Pins(#): 4; USB Speed: Full; Integrated MCU Architecture: 8052; Bulk Transfer: True; MCU Code Space(KBytes): 16; DatasheetVersion: SLLS519H; PackageVersion: revD, Jun-2011; PackageReference: RHB32-3450X3450TP; PackageDescription: 32-Pin Plastic Quad Flat No-Lead, 5 x 5 mm Body, 0.5 mm Pitch, 3.45 x 3.45 mm Exposed Pad; Mounting Technology: Surface Mount; Eco-Plan: Green (RoHS & no Sb/Br); Number of Endpoints OUT: 3; Control Transfer: True; DMA: True; Interrupt Transfer: True; Remote Wakeup: True; Code_JEDEC: MO-220; ComponentLink1Description: Datasheet; ComponentLink1URL: http://www.ti.com/general/docs/lit/getliterature.tsp?genericPartNumber=TUSB3410&fileType=pdf; ComponentLink2Description: Package Specification; ComponentLink2URL: http://www.ti.com/litv/pdf/mpqf130c
footprint RHB32-3450X3450TP (QFN, 32-Leads, Body 5x5mm, Pitch 0.5mm, Thermal Pad 3.45x3.45mm, TI Recommended)
pins: 1 ~{VREGEN} (in) "This active-low terminal is used to enable the 3.3-V to 1.8-V voltage regulator.", 2 SUSPEND (out) "Suspend indicator terminal (see Note 3). When this terminal is asserted high, the device is in suspend mode.", 3 VCC (power) "3.3V", 4 VDD18 (power) "1.8-V supply. An internal voltage regulator generates this supply voltage when terminal V\R\E\G\E\N\ is low. When V\R\E\G\E\N\ is high, 1.8 V must be supplied externally.", 5 PUR (hiz) "Pull-up resistor connection (see Note 2)", 6 DP (io) "Upstream USB port differential data plus", 7 DM (io) "Upstream USB port differential data minus", 8 GND (power) "Digital ground", 9 ~{RESET} (in) "Device master reset input (see Note 4)", 10 SDA (io) "Master I2C controller: data signal (see Notes 1 and 5)", 11 SCL (hiz) "Master I2C controller: clock signal (see Note 1)", 12 ~{WAKEUP} (in) "Remote wake-up request terminal. When low, wakes up system (see Note 5)", 13 ~{CTS} (in) "UART: Clear to send (see Note 4)", 14 ~{DSR} (in) "UART: Data set ready (see Note 4)", 15 ~{DCD} (in) "UART: Data carrier detect (see Note 4)", 16 ~{RI}/CP (in) "UART: Ring indicator (see Note 4)", 17 SIN/IR_SIN (in) "UART: Serial input data / IR Serial data input (see Note 6)", 18 GND (power) "Digital ground", 19 SOUT/IR_SOUT (out) "UART: Serial output data / IR Serial data output (see Note 7)", 20 ~{RTS} (hiz) "UART: Request to send (see Note 1)", 21 ~{DTR} (hiz) "UART: Data terminal ready (see Note 1)", 22 CLKOUT (hiz) "Clock output (controlled by bits 2 (CLKOUTEN) and 3(CLKSLCT) in the MODECNFG register (see Section 5.5 and Note 1)", 23 TEST0 (in) "Test input (for factory test only) (see Note 5). This terminal must be tied to VCC through a 10-k ohm resistor.", 24 TEST1 (in) "Test input (for factory test only) (see Note 5). This terminal must be tied to VCC through a 10-k ohm resistor.", 25 VCC (power) "3.3V", 26 X2 "12-MHz crystal output", 27 X1/CLKI (in) "12-MHz crystal input or clock input", 28 GND (power) "Digital ground", 29 P3.4 (io) "General-purpose I/O 4 (port 3, terminal 4) (see Notes 3, 5, and 8)", 30 P3.3 (io) "General-purpose I/O 3 (port 3, terminal 3) (see Notes 3, 5, and 8)", 31 P3.1 (io) "General-purpose I/O 1 (port 3, terminal 1) (see Notes 3, 5, and 8)", 32 P3.0 (io) "General-purpose I/O 0 (port 3, terminal 0) (see Notes 3, 5, and 8)", 33 EP "Exposed Thermal Pad"

## TUSB3410RHBT
designator U?
2 MIPs, RS232 / IrDA Serial-to-USB Converter, 16 KBytes, 8052, 3.3V, 0 to 70 degC, 32-Pin QFN (RHB), Green (RoHS & no Sb/Br); PartNumber: TUSB3410RHBT; Manufacturer: Texas Instruments; SubFamily: USB Peripheral; MCU Speed(Max)(MIPs): 2; Number of Endpoints IN: 3; Supply Voltage(s)(V): 3.3; Application Interface: Enhanced, UART; GPIO Pins(#): 4; USB Speed: Full; Integrated MCU Architecture: 8052; Bulk Transfer: True; MCU Code Space(KBytes): 16; DatasheetVersion: SLLS519H; PackageVersion: revD, Jun-2011; PackageReference: RHB32-3450X3450TP; PackageDescription: 32-Pin Plastic Quad Flat No-Lead, 5 x 5 mm Body, 0.5 mm Pitch, 3.45 x 3.45 mm Exposed Pad; Mounting Technology: Surface Mount; Eco-Plan: Green (RoHS & no Sb/Br); Number of Endpoints OUT: 3; Control Transfer: True; DMA: True; Interrupt Transfer: True; Remote Wakeup: True; Code_JEDEC: MO-220; ComponentLink1Description: Datasheet; ComponentLink1URL: http://www.ti.com/general/docs/lit/getliterature.tsp?genericPartNumber=TUSB3410&fileType=pdf; ComponentLink2Description: Package Specification; ComponentLink2URL: http://www.ti.com/litv/pdf/mpqf130c
footprint RHB32-3450X3450TP (QFN, 32-Leads, Body 5x5mm, Pitch 0.5mm, Thermal Pad 3.45x3.45mm, TI Recommended)
pins: 1 ~{VREGEN} (in) "This active-low terminal is used to enable the 3.3-V to 1.8-V voltage regulator.", 2 SUSPEND (out) "Suspend indicator terminal (see Note 3). When this terminal is asserted high, the device is in suspend mode.", 3 VCC (power) "3.3V", 4 VDD18 (power) "1.8-V supply. An internal voltage regulator generates this supply voltage when terminal V\R\E\G\E\N\ is low. When V\R\E\G\E\N\ is high, 1.8 V must be supplied externally.", 5 PUR (hiz) "Pull-up resistor connection (see Note 2)", 6 DP (io) "Upstream USB port differential data plus", 7 DM (io) "Upstream USB port differential data minus", 8 GND (power) "Digital ground", 9 ~{RESET} (in) "Device master reset input (see Note 4)", 10 SDA (io) "Master I2C controller: data signal (see Notes 1 and 5)", 11 SCL (hiz) "Master I2C controller: clock signal (see Note 1)", 12 ~{WAKEUP} (in) "Remote wake-up request terminal. When low, wakes up system (see Note 5)", 13 ~{CTS} (in) "UART: Clear to send (see Note 4)", 14 ~{DSR} (in) "UART: Data set ready (see Note 4)", 15 ~{DCD} (in) "UART: Data carrier detect (see Note 4)", 16 ~{RI}/CP (in) "UART: Ring indicator (see Note 4)", 17 SIN/IR_SIN (in) "UART: Serial input data / IR Serial data input (see Note 6)", 18 GND (power) "Digital ground", 19 SOUT/IR_SOUT (out) "UART: Serial output data / IR Serial data output (see Note 7)", 20 ~{RTS} (hiz) "UART: Request to send (see Note 1)", 21 ~{DTR} (hiz) "UART: Data terminal ready (see Note 1)", 22 CLKOUT (hiz) "Clock output (controlled by bits 2 (CLKOUTEN) and 3(CLKSLCT) in the MODECNFG register (see Section 5.5 and Note 1)", 23 TEST0 (in) "Test input (for factory test only) (see Note 5). This terminal must be tied to VCC through a 10-k ohm resistor.", 24 TEST1 (in) "Test input (for factory test only) (see Note 5). This terminal must be tied to VCC through a 10-k ohm resistor.", 25 VCC (power) "3.3V", 26 X2 "12-MHz crystal output", 27 X1/CLKI (in) "12-MHz crystal input or clock input", 28 GND (power) "Digital ground", 29 P3.4 (io) "General-purpose I/O 4 (port 3, terminal 4) (see Notes 3, 5, and 8)", 30 P3.3 (io) "General-purpose I/O 3 (port 3, terminal 3) (see Notes 3, 5, and 8)", 31 P3.1 (io) "General-purpose I/O 1 (port 3, terminal 1) (see Notes 3, 5, and 8)", 32 P3.0 (io) "General-purpose I/O 0 (port 3, terminal 0) (see Notes 3, 5, and 8)", 33 EP "Exposed Thermal Pad"

## TUSB3410VF
designator U?
2 MIPs, RS232 / IrDA Serial-to-USB Converter, 16 KBytes, 8052, 3.3V, 0 to 70 degC, 32-Pin LQFP (VF), Green (RoHS & no Sb/Br); PartNumber: TUSB3410VF; Manufacturer: Texas Instruments; SubFamily: USB Peripheral; MCU Speed(Max)(MIPs): 2; Number of Endpoints IN: 3; Supply Voltage(s)(V): 3.3; Application Interface: Enhanced, UART; GPIO Pins(#): 4; USB Speed: Full; Integrated MCU Architecture: 8052; Bulk Transfer: True; MCU Code Space(KBytes): 16; DatasheetVersion: SLLS519H; PackageVersion: revD, Apr-2000; PackageReference: VF32; PackageDescription: 32-Pin Plastic Quad Flatpack, 7 x 7 mm Body, 0.8 mm Pitch; Mounting Technology: Surface Mount; Eco-Plan: Green (RoHS & no Sb/Br); Number of Endpoints OUT: 3; Control Transfer: True; DMA: True; Interrupt Transfer: True; Remote Wakeup: True; ComponentLink1Description: Datasheet; ComponentLink1URL: http://www.ti.com/general/docs/lit/getliterature.tsp?genericPartNumber=TUSB3410&fileType=pdf; ComponentLink2Description: Package Specification; ComponentLink2URL: http://www.ti.com/litv/pdf/mtqf002b
footprint VF32_N (Thin QFP, 32-Leads, Body 7x7mm, Pitch 0.8mm, IPC Medium Density)
footprint VF32_L (Thin QFP, 32-Leads, Body 7x7mm, Pitch 0.8mm, IPC High Density)
footprint VF32_M (Thin QFP, 32-Leads, Body 7x7mm, Pitch 0.8mm, IPC Low Density)
pins: 1 ~{VREGEN} (in) "This active-low terminal is used to enable the 3.3-V to 1.8-V voltage regulator.", 2 SUSPEND (hiz) "Suspend indicator terminal (see Note 3). When this terminal is asserted high, the device is in suspend mode.", 3 VCC (power) "3.3 V", 4 VDD18 (power) "1.8-V supply. An internal voltage regulator generates this supply voltage when terminal V\R\E\G\E\N\ islow. When V\R\E\G\E\N\ is high, 1.8 V must be supplied externally.", 5 PUR (hiz) "Pull-up resistor connection (see Note 2)", 6 DP (io) "Upstream USB port differential data plus", 7 DM (io) "Upstream USB port differential data minus", 8 GND (power) "Digital ground", 9 ~{RESET} (in) "Device master reset input (see Note 4)", 10 SDA (io) "Master I2C controller: data signal (see Notes 1 and 5)", 11 SCL (hiz) "Master I2C controller: clock signal (see Note 1)", 12 ~{WAKEUP} (in) "Remote wake-up request terminal. When low, wakes up system (see Note 5)", 13 ~{CTS} (in) "UART: Clear to send (see Note 4)", 14 ~{DSR} (in) "UART: Data set ready (see Note 4)", 15 ~{DCD} (in) "UART: Data carrier detect (see Note 4)", 16 ~{RI}/CP (in) "UART: Ring indicator (see Note 4)", 17 SIN/IR_SIN (in) "UART: Serial input data / IR Serial data input (see Note 6)", 18 GND (power) "Digital ground", 19 SOUT/IR_SOUT (hiz) "UART: Serial output data / IR Serial data output (see Note 7)", 20 ~{RTS} (hiz) "UART: Request to send (see Note 1)", 21 ~{DTR} (hiz) "UART: Data terminal ready (see Note 1)", 22 CLKOUT (hiz) "Clock output (controlled by bits 2 (CLKOUTEN) and 3(CLKSLCT) in the MODECNFG register (see Section 5.5 and Note 1)", 23 TEST0 (in) "Test input (for factory test only) (see Note 5). This terminal must be tied to VCC through a 10-kO resistor.", 24 TEST1 (in) "Test input (for factory test only) (see Note 5). This terminal must be tied to VCC through a 10-kO resistor.", 25 VCC (power) "3.3 V", 26 X2 "12-MHz crystal output", 27 X1/CLKI (in) "12-MHz crystal input or clock input", 28 GND (power) "Digital ground", 29 P3.4 (io) "General-purpose I/O 4 (port 3, terminal 4) (see Notes 3, 5, and 8)", 30 P3.3 (io) "General-purpose I/O 3 (port 3, terminal 3) (see Notes 3, 5, and 8)", 31 P3.1 (io) "General-purpose I/O 1 (port 3, terminal 1) (see Notes 3, 5, and 8)", 32 P3.0 (io) "General-purpose I/O 0 (port 3, terminal 0) (see Notes 3, 5, and 8)"

## TUSB3410VFG4
designator U?
2 MIPs, RS232 / IrDA Serial-to-USB Converter, 16 KBytes, 8052, 3.3V, 0 to 70 degC, 32-Pin LQFP (VF), Green (RoHS & no Sb/Br); PartNumber: TUSB3410VFG4; Manufacturer: Texas Instruments; SubFamily: USB Peripheral; MCU Speed(Max)(MIPs): 2; Number of Endpoints IN: 3; Supply Voltage(s)(V): 3.3; Application Interface: Enhanced, UART; GPIO Pins(#): 4; USB Speed: Full; Integrated MCU Architecture: 8052; Bulk Transfer: True; MCU Code Space(KBytes): 16; DatasheetVersion: SLLS519H; PackageVersion: revD, Apr-2000; PackageReference: VF32; PackageDescription: 32-Pin Plastic Quad Flatpack, 7 x 7 mm Body, 0.8 mm Pitch; Mounting Technology: Surface Mount; Eco-Plan: Green (RoHS & no Sb/Br); Number of Endpoints OUT: 3; Control Transfer: True; DMA: True; Interrupt Transfer: True; Remote Wakeup: True; ComponentLink1Description: Datasheet; ComponentLink1URL: http://www.ti.com/general/docs/lit/getliterature.tsp?genericPartNumber=TUSB3410&fileType=pdf; ComponentLink2Description: Package Specification; ComponentLink2URL: http://www.ti.com/litv/pdf/mtqf002b
footprint VF32_N (Thin QFP, 32-Leads, Body 7x7mm, Pitch 0.8mm, IPC Medium Density)
footprint VF32_L (Thin QFP, 32-Leads, Body 7x7mm, Pitch 0.8mm, IPC High Density)
footprint VF32_M (Thin QFP, 32-Leads, Body 7x7mm, Pitch 0.8mm, IPC Low Density)
pins: 1 ~{VREGEN} (in) "This active-low terminal is used to enable the 3.3-V to 1.8-V voltage regulator.", 2 SUSPEND (hiz) "Suspend indicator terminal (see Note 3). When this terminal is asserted high, the device is in suspend mode.", 3 VCC (power) "3.3 V", 4 VDD18 (power) "1.8-V supply. An internal voltage regulator generates this supply voltage when terminal V\R\E\G\E\N\ islow. When V\R\E\G\E\N\ is high, 1.8 V must be supplied externally.", 5 PUR (hiz) "Pull-up resistor connection (see Note 2)", 6 DP (io) "Upstream USB port differential data plus", 7 DM (io) "Upstream USB port differential data minus", 8 GND (power) "Digital ground", 9 ~{RESET} (in) "Device master reset input (see Note 4)", 10 SDA (io) "Master I2C controller: data signal (see Notes 1 and 5)", 11 SCL (hiz) "Master I2C controller: clock signal (see Note 1)", 12 ~{WAKEUP} (in) "Remote wake-up request terminal. When low, wakes up system (see Note 5)", 13 ~{CTS} (in) "UART: Clear to send (see Note 4)", 14 ~{DSR} (in) "UART: Data set ready (see Note 4)", 15 ~{DCD} (in) "UART: Data carrier detect (see Note 4)", 16 ~{RI}/CP (in) "UART: Ring indicator (see Note 4)", 17 SIN/IR_SIN (in) "UART: Serial input data / IR Serial data input (see Note 6)", 18 GND (power) "Digital ground", 19 SOUT/IR_SOUT (hiz) "UART: Serial output data / IR Serial data output (see Note 7)", 20 ~{RTS} (hiz) "UART: Request to send (see Note 1)", 21 ~{DTR} (hiz) "UART: Data terminal ready (see Note 1)", 22 CLKOUT (hiz) "Clock output (controlled by bits 2 (CLKOUTEN) and 3(CLKSLCT) in the MODECNFG register (see Section 5.5 and Note 1)", 23 TEST0 (in) "Test input (for factory test only) (see Note 5). This terminal must be tied to VCC through a 10-kO resistor.", 24 TEST1 (in) "Test input (for factory test only) (see Note 5). This terminal must be tied to VCC through a 10-kO resistor.", 25 VCC (power) "3.3 V", 26 X2 "12-MHz crystal output", 27 X1/CLKI (in) "12-MHz crystal input or clock input", 28 GND (power) "Digital ground", 29 P3.4 (io) "General-purpose I/O 4 (port 3, terminal 4) (see Notes 3, 5, and 8)", 30 P3.3 (io) "General-purpose I/O 3 (port 3, terminal 3) (see Notes 3, 5, and 8)", 31 P3.1 (io) "General-purpose I/O 1 (port 3, terminal 1) (see Notes 3, 5, and 8)", 32 P3.0 (io) "General-purpose I/O 0 (port 3, terminal 0) (see Notes 3, 5, and 8)"

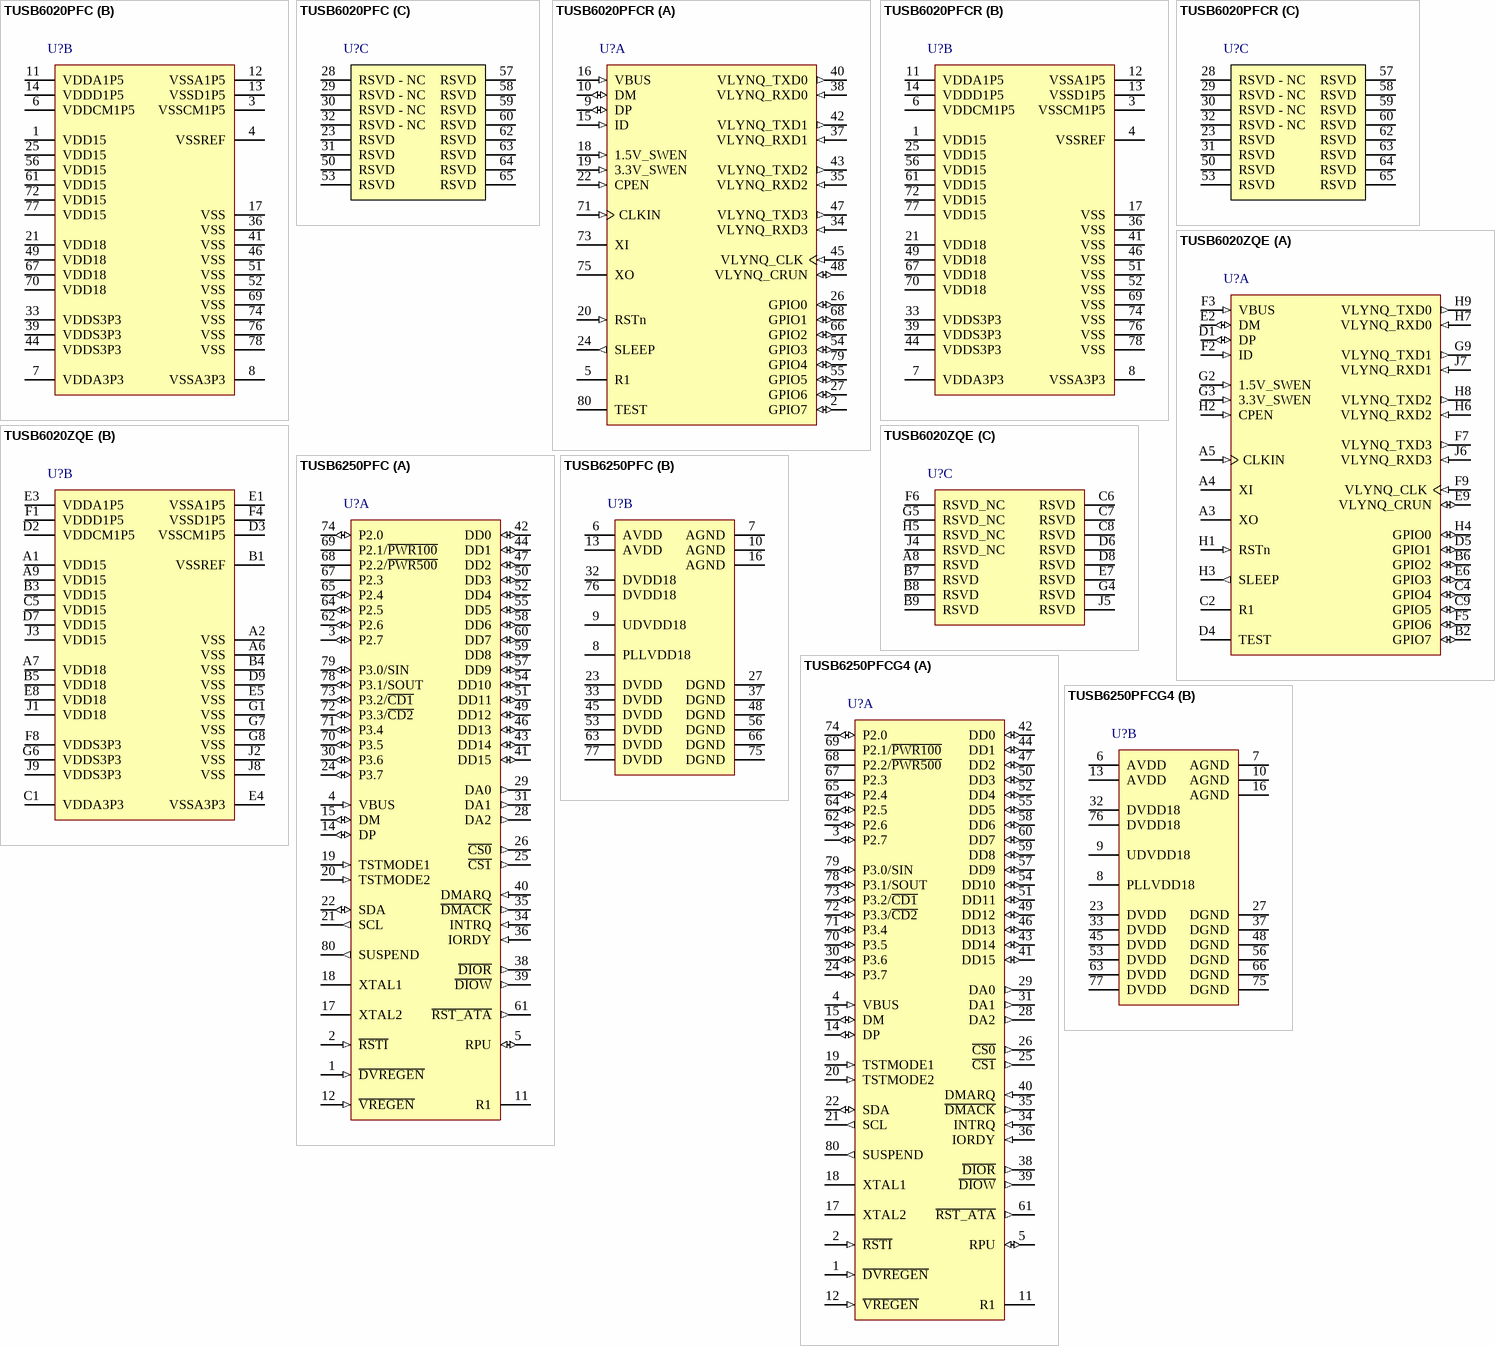
[diagram p5: symbols TUSB6020PFC to TUSB6250PFCG4]